# Altium integrated library Linear Technology Power Management Switching Regulator LT1074-LT8705.IntLib: 2252 symbols (part 81 of 148)
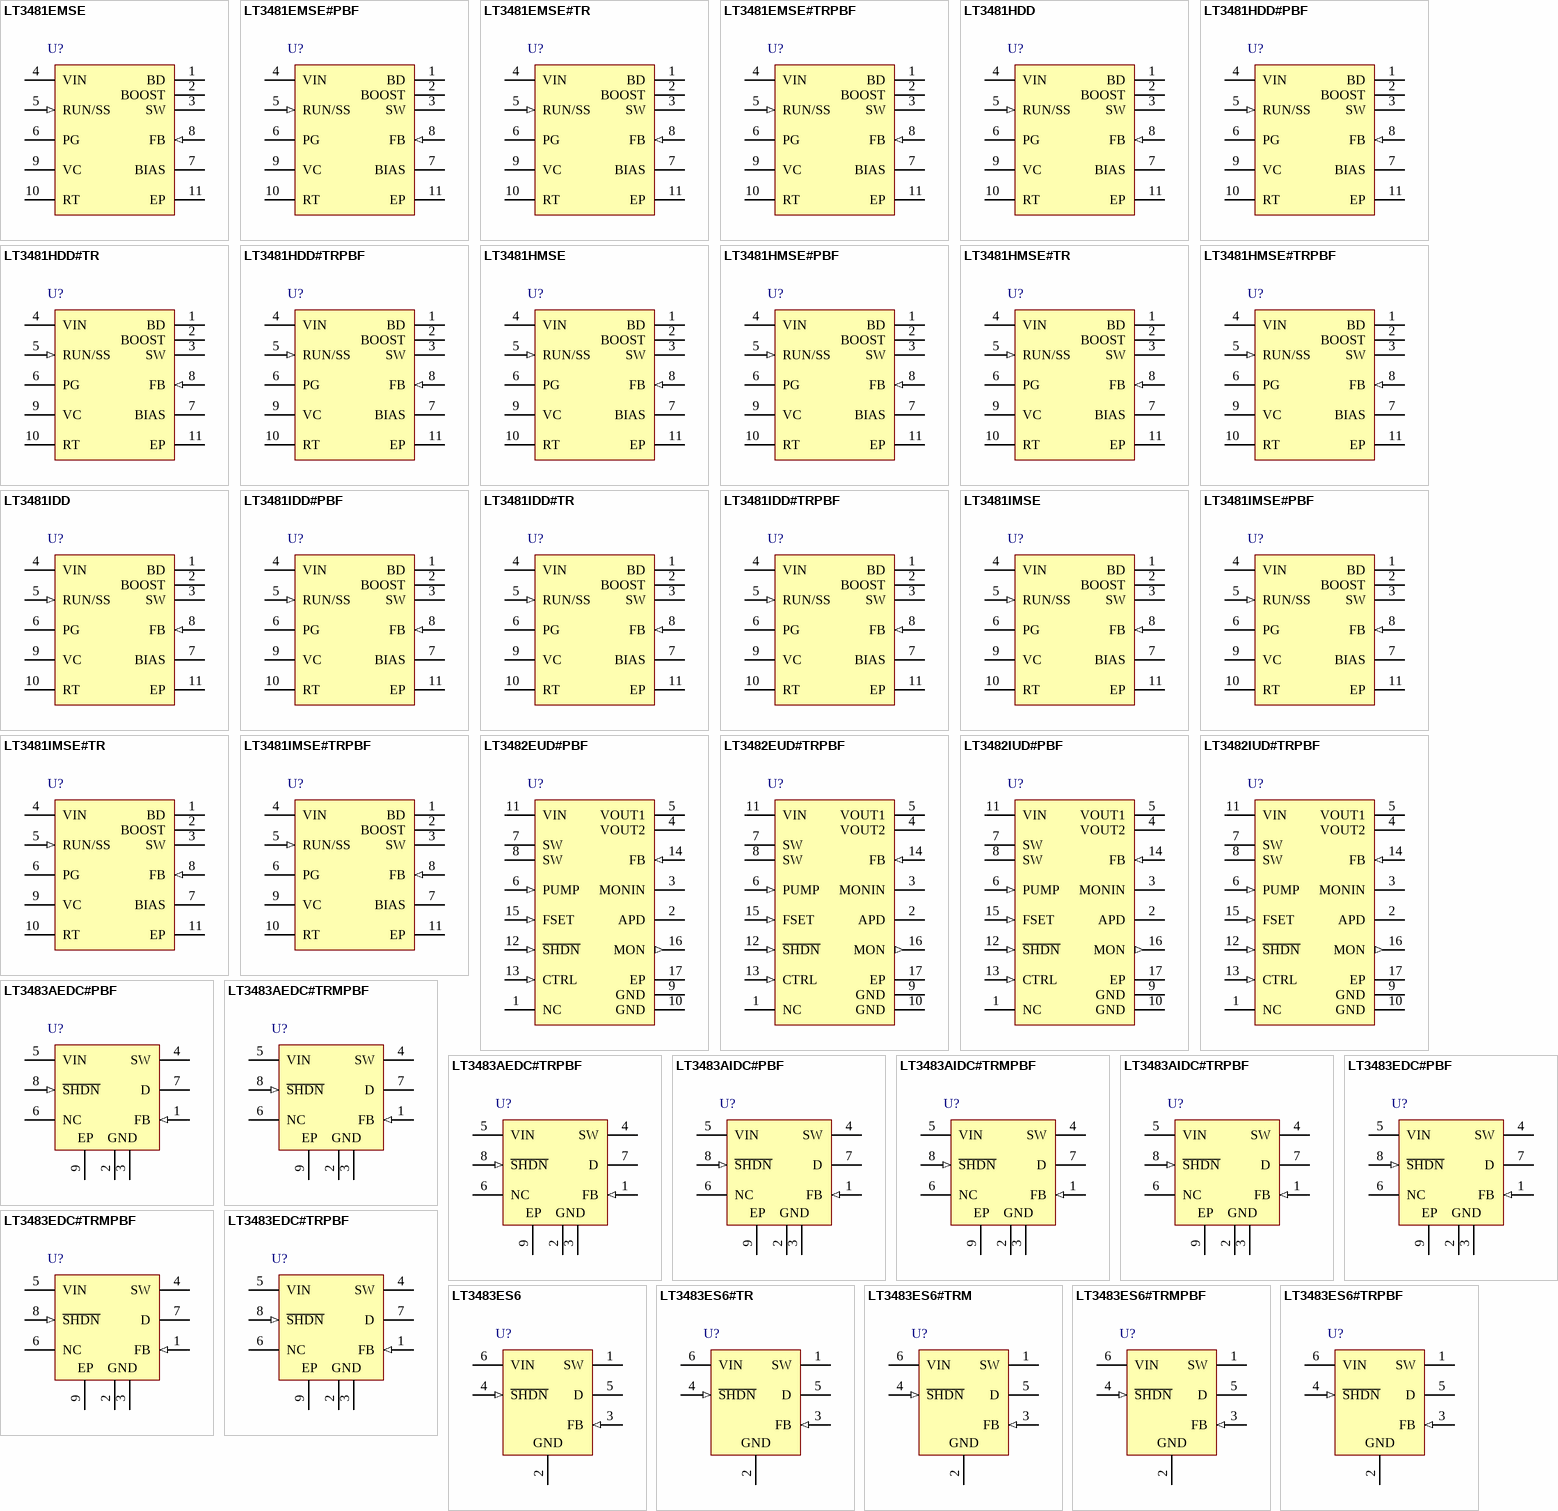
[diagram p151: symbols LT3481EMSE to LT3483ES6#TRPBF]

## LT3483AEDC#TRMPBF
designator U?
Inverting Micropower DC/DC Converter with Schottky Max, 8-pin SON (DC8), -40 to 85 degC, Pb-Free, Mini Tape and Reel; Manufacturer: Linear Technology; PartNumber: LT3483AEDC#TRMPBF; Number of Outputs: 1; DatasheetVersion: Rev. C; PackageVersion: Rev. A, 04/2009; PackageReference: DC8; PackageDescription: 8-Pin Plastic DFN, Body 2 x 2 mm, Pitch 0.45 mm; Supplier 1: Digi-Key; Supplier Part Number 1: LT3483AEDC#TRMPBFTR-ND; Supplier 2: Digi-Key; Supplier Part Number 2: LT3483AEDC#TRMPBFCT-ND; Supplier 3: Digi-Key; Supplier Part Number 3: LT3483AEDC#TRMPBFDKR-ND; Supplier 4: Farnell; Supplier Part Number 4: 1869453; Supplier 5: Newark; Supplier Part Number 5: 24T2735; Packing: Mini Tape and Reel; RoHS: TRUE; Mounting Technology: Surface Mount; ComponentLink1Description: Manufacturer URL; ComponentLink1URL: http://www.linear.com/; ComponentLink2Description: Datasheet; ComponentLink2URL: http://cds.linear.com/docs/en/datasheet/3483fc.pdf; ComponentLink3Description: Package Specification; ComponentLink3URL: http://cds.linear.com/docs/en/packaging/DFN_8_05-08-1719.pdf
footprint LT-DC8_V (SON, 8-Leads, Body 2x2mm, Pitch 0.45mm, Thermal Pad 1.37x0.64mm, Recommended)
pins: 1 FB (in) "Feedback. Place resistor to negative output here. Set resistor value R1 = VOUT/10uA.", 2 GND (power) "Ground. For DFN package, tie both pin 2 and pin 3 together to ground.", 3 GND (power) "Ground. For DFN package, tie both pin 2 and pin 3 together to ground.", 4 SW (power) "Switch. Connect to external inductor L1 and positive terminal of transfer capacitor.", 5 VIN (power) "Input Supply. Must be locally bypassed with 1uF or greater.", 6 NC "No Internal Connection.", 7 D "Anode Terminal of Integrated Schottky Diode. Connect to negative terminal of transfer capacitor and external inductor L2 (flyback configuration) or to cathode of external Schottky diode (inverting charge pump configuration).", 8 ~{SHDN} (in) "Shutdown. Connect to GND to turn device off. Connect to supply to turn device on.", 9 EP (power) "GND. The exposed pad should be soldered to the PCB ground to achieve the rated thermal performance."

## LT3483AEDC#TRPBF
designator U?
Inverting Micropower DC/DC Converter with Schottky Max, 8-pin SON (DC8), -40 to 85 degC, Pb-Free, Tape and Reel; Manufacturer: Linear Technology; PartNumber: LT3483AEDC#TRPBF; Number of Outputs: 1; DatasheetVersion: Rev. C; PackageVersion: Rev. A, 04/2009; PackageReference: DC8; PackageDescription: 8-Pin Plastic DFN, Body 2 x 2 mm, Pitch 0.45 mm; Supplier 1: Digi-Key; Supplier Part Number 1: LT3483AEDC#TRPBF-ND; Packing: Tape and Reel; RoHS: TRUE; Mounting Technology: Surface Mount; ComponentLink1Description: Manufacturer URL; ComponentLink1URL: http://www.linear.com/; ComponentLink2Description: Datasheet; ComponentLink2URL: http://cds.linear.com/docs/en/datasheet/3483fc.pdf; ComponentLink3Description: Package Specification; ComponentLink3URL: http://cds.linear.com/docs/en/packaging/DFN_8_05-08-1719.pdf
footprint LT-DC8_V (SON, 8-Leads, Body 2x2mm, Pitch 0.45mm, Thermal Pad 1.37x0.64mm, Recommended)
pins: 1 FB (in) "Feedback. Place resistor to negative output here. Set resistor value R1 = VOUT/10uA.", 2 GND (power) "Ground. For DFN package, tie both pin 2 and pin 3 together to ground.", 3 GND (power) "Ground. For DFN package, tie both pin 2 and pin 3 together to ground.", 4 SW (power) "Switch. Connect to external inductor L1 and positive terminal of transfer capacitor.", 5 VIN (power) "Input Supply. Must be locally bypassed with 1uF or greater.", 6 NC "No Internal Connection.", 7 D "Anode Terminal of Integrated Schottky Diode. Connect to negative terminal of transfer capacitor and external inductor L2 (flyback configuration) or to cathode of external Schottky diode (inverting charge pump configuration).", 8 ~{SHDN} (in) "Shutdown. Connect to GND to turn device off. Connect to supply to turn device on.", 9 EP (power) "GND. The exposed pad should be soldered to the PCB ground to achieve the rated thermal performance."

## LT3483AIDC#PBF
designator U?
Inverting Micropower DC/DC Converter with Schottky Max, 8-pin SON (DC8), -40 to 125 degC, Pb-Free; Manufacturer: Linear Technology; PartNumber: LT3483AIDC#PBF; Number of Outputs: 1; DatasheetVersion: Rev. C; PackageVersion: Rev. A, 04/2009; PackageReference: DC8; PackageDescription: 8-Pin Plastic DFN, Body 2 x 2 mm, Pitch 0.45 mm; RoHS: TRUE; Mounting Technology: Surface Mount; ComponentLink1Description: Manufacturer URL; ComponentLink1URL: http://www.linear.com/; ComponentLink2Description: Datasheet; ComponentLink2URL: http://cds.linear.com/docs/en/datasheet/3483fc.pdf; ComponentLink3Description: Package Specification; ComponentLink3URL: http://cds.linear.com/docs/en/packaging/DFN_8_05-08-1719.pdf
footprint LT-DC8_V (SON, 8-Leads, Body 2x2mm, Pitch 0.45mm, Thermal Pad 1.37x0.64mm, Recommended)
pins: 1 FB (in) "Feedback. Place resistor to negative output here. Set resistor value R1 = VOUT/10uA.", 2 GND (power) "Ground. For DFN package, tie both pin 2 and pin 3 together to ground.", 3 GND (power) "Ground. For DFN package, tie both pin 2 and pin 3 together to ground.", 4 SW (power) "Switch. Connect to external inductor L1 and positive terminal of transfer capacitor.", 5 VIN (power) "Input Supply. Must be locally bypassed with 1uF or greater.", 6 NC "No Internal Connection.", 7 D "Anode Terminal of Integrated Schottky Diode. Connect to negative terminal of transfer capacitor and external inductor L2 (flyback configuration) or to cathode of external Schottky diode (inverting charge pump configuration).", 8 ~{SHDN} (in) "Shutdown. Connect to GND to turn device off. Connect to supply to turn device on.", 9 EP (power) "GND. The exposed pad should be soldered to the PCB ground to achieve the rated thermal performance."

## LT3483AIDC#TRMPBF
designator U?
Inverting Micropower DC/DC Converter with Schottky Max, 8-pin SON (DC8), -40 to 125 degC, Pb-Free, Mini Tape and Reel; Manufacturer: Linear Technology; PartNumber: LT3483AIDC#TRMPBF; Number of Outputs: 1; DatasheetVersion: Rev. C; PackageVersion: Rev. A, 04/2009; PackageReference: DC8; PackageDescription: 8-Pin Plastic DFN, Body 2 x 2 mm, Pitch 0.45 mm; Supplier 1: Digi-Key; Supplier Part Number 1: LT3483AIDC#TRMPBF-ND; Packing: Mini Tape and Reel; RoHS: TRUE; Mounting Technology: Surface Mount; ComponentLink1Description: Manufacturer URL; ComponentLink1URL: http://www.linear.com/; ComponentLink2Description: Datasheet; ComponentLink2URL: http://cds.linear.com/docs/en/datasheet/3483fc.pdf; ComponentLink3Description: Package Specification; ComponentLink3URL: http://cds.linear.com/docs/en/packaging/DFN_8_05-08-1719.pdf
footprint LT-DC8_V (SON, 8-Leads, Body 2x2mm, Pitch 0.45mm, Thermal Pad 1.37x0.64mm, Recommended)
pins: 1 FB (in) "Feedback. Place resistor to negative output here. Set resistor value R1 = VOUT/10uA.", 2 GND (power) "Ground. For DFN package, tie both pin 2 and pin 3 together to ground.", 3 GND (power) "Ground. For DFN package, tie both pin 2 and pin 3 together to ground.", 4 SW (power) "Switch. Connect to external inductor L1 and positive terminal of transfer capacitor.", 5 VIN (power) "Input Supply. Must be locally bypassed with 1uF or greater.", 6 NC "No Internal Connection.", 7 D "Anode Terminal of Integrated Schottky Diode. Connect to negative terminal of transfer capacitor and external inductor L2 (flyback configuration) or to cathode of external Schottky diode (inverting charge pump configuration).", 8 ~{SHDN} (in) "Shutdown. Connect to GND to turn device off. Connect to supply to turn device on.", 9 EP (power) "GND. The exposed pad should be soldered to the PCB ground to achieve the rated thermal performance."

## LT3483AIDC#TRPBF
designator U?
Inverting Micropower DC/DC Converter with Schottky Max, 8-pin SON (DC8), -40 to 125 degC, Pb-Free, Tape and Reel; Manufacturer: Linear Technology; PartNumber: LT3483AIDC#TRPBF; Number of Outputs: 1; DatasheetVersion: Rev. C; PackageVersion: Rev. A, 04/2009; PackageReference: DC8; PackageDescription: 8-Pin Plastic DFN, Body 2 x 2 mm, Pitch 0.45 mm; Supplier 1: Digi-Key; Supplier Part Number 1: LT3483AIDC#TRPBF-ND; Packing: Tape and Reel; RoHS: TRUE; Mounting Technology: Surface Mount; ComponentLink1Description: Manufacturer URL; ComponentLink1URL: http://www.linear.com/; ComponentLink2Description: Datasheet; ComponentLink2URL: http://cds.linear.com/docs/en/datasheet/3483fc.pdf; ComponentLink3Description: Package Specification; ComponentLink3URL: http://cds.linear.com/docs/en/packaging/DFN_8_05-08-1719.pdf
footprint LT-DC8_V (SON, 8-Leads, Body 2x2mm, Pitch 0.45mm, Thermal Pad 1.37x0.64mm, Recommended)
pins: 1 FB (in) "Feedback. Place resistor to negative output here. Set resistor value R1 = VOUT/10uA.", 2 GND (power) "Ground. For DFN package, tie both pin 2 and pin 3 together to ground.", 3 GND (power) "Ground. For DFN package, tie both pin 2 and pin 3 together to ground.", 4 SW (power) "Switch. Connect to external inductor L1 and positive terminal of transfer capacitor.", 5 VIN (power) "Input Supply. Must be locally bypassed with 1uF or greater.", 6 NC "No Internal Connection.", 7 D "Anode Terminal of Integrated Schottky Diode. Connect to negative terminal of transfer capacitor and external inductor L2 (flyback configuration) or to cathode of external Schottky diode (inverting charge pump configuration).", 8 ~{SHDN} (in) "Shutdown. Connect to GND to turn device off. Connect to supply to turn device on.", 9 EP (power) "GND. The exposed pad should be soldered to the PCB ground to achieve the rated thermal performance."

## LT3483EDC#PBF
designator U?
Inverting Micropower DC/DC Converter with Schottky, 8-pin SON (DC8-8), -40 to 85 degC, Pb-Free; Manufacturer: Linear Technology; PartNumber: LT3483EDC#PBF; Number of Outputs: 1; DatasheetVersion: Rev. C; PackageVersion: Rev. A, 06/2010; PackageReference: DC8-8; PackageDescription: 8-Pin Plastic DFN, Body 2 x 2 mm, Pitch 0.45 mm; Supplier 1: Farnell; Supplier Part Number 1: 2308207; Supplier 2: Newark; Supplier Part Number 2: 78T4010; RoHS: TRUE; Mounting Technology: Surface Mount; ComponentLink1Description: Manufacturer URL; ComponentLink1URL: http://www.linear.com/; ComponentLink2Description: Datasheet; ComponentLink2URL: http://cds.linear.com/docs/en/datasheet/3483fc.pdf; ComponentLink3Description: Package Specification; ComponentLink3URL: http://www.linear.com/docs/en/packaging/DFN_8_05-08-1719.pdf
footprint LT-DC8-8_V (SON, 8-Leads, Body 2x2mm, Pitch 0.45mm, Thermal Pad 1.37x0.64mm)
pins: 1 FB (in) "Feedback. Place resistor to negative output here. Set resistor value R1 = VOUT/10uA.", 2 GND (power) "Ground. For DFN package, tie both pin 2 and pin 3 together to ground.", 3 GND (power) "Ground. For DFN package, tie both pin 2 and pin 3 together to ground.", 4 SW (power) "Switch. Connect to external inductor L1 and positive terminal of transfer capacitor.", 5 VIN (power) "Input Supply. Must be locally bypassed with 1uF or greater.", 6 NC "No Internal Connection.", 7 D "Anode Terminal of Integrated Schottky Diode. Connect to negative terminal of transfer capacitor and external inductor L2 (flyback configuration) or to cathode of external Schottky diode (inverting charge pump configuration).", 8 ~{SHDN} (in) "Shutdown. Connect to GND to turn device off. Connect to supply to turn device on.", 9 EP (power) "GND. The exposed pad should be soldered to the PCB ground to achieve the rated thermal performance."

## LT3483EDC#TRMPBF
designator U?
Inverting Micropower DC/DC Converter with Schottky, 8-pin SON (DC8-8), -40 to 85 degC, Pb-Free, Mini Tape and Reel; Manufacturer: Linear Technology; PartNumber: LT3483EDC#TRMPBF; Number of Outputs: 1; DatasheetVersion: Rev. C; PackageVersion: Rev. A, 06/2010; PackageReference: DC8-8; PackageDescription: 8-Pin Plastic DFN, Body 2 x 2 mm, Pitch 0.45 mm; Supplier 1: Digi-Key; Supplier Part Number 1: LT3483EDC#TRMPBFTR-ND; Supplier 2: Digi-Key; Supplier Part Number 2: LT3483EDC#TRMPBFCT-ND; Supplier 3: Digi-Key; Supplier Part Number 3: LT3483EDC#TRMPBFDKR-ND; Supplier 4: Newark; Supplier Part Number 4: 57M8369; Packing: Mini Tape and Reel; RoHS: TRUE; Mounting Technology: Surface Mount; ComponentLink1Description: Manufacturer URL; ComponentLink1URL: http://www.linear.com/; ComponentLink2Description: Datasheet; ComponentLink2URL: http://cds.linear.com/docs/en/datasheet/3483fc.pdf; ComponentLink3Description: Package Specification; ComponentLink3URL: http://www.linear.com/docs/en/packaging/DFN_8_05-08-1719.pdf
footprint LT-DC8-8_V (SON, 8-Leads, Body 2x2mm, Pitch 0.45mm, Thermal Pad 1.37x0.64mm)
pins: 1 FB (in) "Feedback. Place resistor to negative output here. Set resistor value R1 = VOUT/10uA.", 2 GND (power) "Ground. For DFN package, tie both pin 2 and pin 3 together to ground.", 3 GND (power) "Ground. For DFN package, tie both pin 2 and pin 3 together to ground.", 4 SW (power) "Switch. Connect to external inductor L1 and positive terminal of transfer capacitor.", 5 VIN (power) "Input Supply. Must be locally bypassed with 1uF or greater.", 6 NC "No Internal Connection.", 7 D "Anode Terminal of Integrated Schottky Diode. Connect to negative terminal of transfer capacitor and external inductor L2 (flyback configuration) or to cathode of external Schottky diode (inverting charge pump configuration).", 8 ~{SHDN} (in) "Shutdown. Connect to GND to turn device off. Connect to supply to turn device on.", 9 EP (power) "GND. The exposed pad should be soldered to the PCB ground to achieve the rated thermal performance."

## LT3483EDC#TRPBF
designator U?
Inverting Micropower DC/DC Converter with Schottky, 8-pin SON (DC8-8), -40 to 85 degC, Pb-Free, Tape and Reel; Manufacturer: Linear Technology; PartNumber: LT3483EDC#TRPBF; Number of Outputs: 1; DatasheetVersion: Rev. C; PackageVersion: Rev. A, 06/2010; PackageReference: DC8-8; PackageDescription: 8-Pin Plastic DFN, Body 2 x 2 mm, Pitch 0.45 mm; Supplier 1: Digi-Key; Supplier Part Number 1: LT3483EDC#TRPBF-ND; Supplier 2: Newark; Supplier Part Number 2: 57M8370; Packing: Tape and Reel; RoHS: TRUE; Mounting Technology: Surface Mount; ComponentLink1Description: Manufacturer URL; ComponentLink1URL: http://www.linear.com/; ComponentLink2Description: Datasheet; ComponentLink2URL: http://cds.linear.com/docs/en/datasheet/3483fc.pdf; ComponentLink3Description: Package Specification; ComponentLink3URL: http://www.linear.com/docs/en/packaging/DFN_8_05-08-1719.pdf
footprint LT-DC8-8_V (SON, 8-Leads, Body 2x2mm, Pitch 0.45mm, Thermal Pad 1.37x0.64mm)
pins: 1 FB (in) "Feedback. Place resistor to negative output here. Set resistor value R1 = VOUT/10uA.", 2 GND (power) "Ground. For DFN package, tie both pin 2 and pin 3 together to ground.", 3 GND (power) "Ground. For DFN package, tie both pin 2 and pin 3 together to ground.", 4 SW (power) "Switch. Connect to external inductor L1 and positive terminal of transfer capacitor.", 5 VIN (power) "Input Supply. Must be locally bypassed with 1uF or greater.", 6 NC "No Internal Connection.", 7 D "Anode Terminal of Integrated Schottky Diode. Connect to negative terminal of transfer capacitor and external inductor L2 (flyback configuration) or to cathode of external Schottky diode (inverting charge pump configuration).", 8 ~{SHDN} (in) "Shutdown. Connect to GND to turn device off. Connect to supply to turn device on.", 9 EP (power) "GND. The exposed pad should be soldered to the PCB ground to achieve the rated thermal performance."

## LT3483ES6
designator U?
Inverting Micropower DC/DC Converter with Schottky, 6-pin SOT23 (S6-6), -40 to 85 degC; Manufacturer: Linear Technology; PartNumber: LT3483ES6; Number of Outputs: 1; DatasheetVersion: Rev. C; PackageVersion: Jun-10; PackageReference: S6-6; PackageDescription: 6-Pin Plastic TSOT-23, Body 2.9 x 1.63 mm, Pitch 0.95 mm; RoHS: FALSE; Mounting Technology: Surface Mount; Code_JEDEC: MO-193; ComponentLink1Description: Manufacturer URL; ComponentLink1URL: http://www.linear.com/; ComponentLink2Description: Datasheet; ComponentLink2URL: http://cds.linear.com/docs/en/datasheet/3483fc.pdf; ComponentLink3Description: Package Specification; ComponentLink3URL: http://cds.linear.com/docs/en/packaging/SOT_6_05-08-1636.pdf
footprint LT-S6-6-TSOT-23_N (SOT23, 6-Leads, Body 2.9x1.75mm, Pitch 0.95mm, IPC Medium Density)
footprint LT-S6-6-TSOT-23_L (SOT23, 6-Leads, Body 2.9x1.75mm, Pitch 0.95mm, IPC High Density)
footprint LT-S6-6-TSOT-23_M (SOT23, 6-Leads, Body 2.9x1.75mm, Pitch 0.95mm, IPC Low Density)
pins: 1 SW "Switch. Connect to external inductor  L1 and positive terminal of transfer capacitor.", 2 GND (power) "Ground. For DFN package, tie both  pin 2 and pin 3 together to ground.", 3 FB (in) "Feedback. Place resistor to negative  output here. Set resistor value R1 = VOUT/10uA.", 4 ~{SHDN} (in) "Shutdown. Connect to GND to turn  device off. Connect to supply to turn device on.", 5 D "Anode Terminal of Integrated Schottky Diode. Connect to negative terminal of transfer capacitor and external inductor L2 (flyback configuration) or to cathode of external Schottky diode (inverting charge  pump configuration).", 6 VIN (power) "Input Supply. Must be locally bypassed  with 1uF or greater."

## LT3483ES6#TR
designator U?
Inverting Micropower DC/DC Converter with Schottky, 6-pin SOT23 (S6-6), -40 to 85 degC, Tape and Reel; Manufacturer: Linear Technology; PartNumber: LT3483ES6#TR; Number of Outputs: 1; DatasheetVersion: Rev. C; PackageVersion: Jun-10; PackageReference: S6-6; PackageDescription: 6-Pin Plastic TSOT-23, Body 2.9 x 1.63 mm, Pitch 0.95 mm; Packing: Tape and Reel; RoHS: FALSE; Mounting Technology: Surface Mount; Code_JEDEC: MO-193; ComponentLink1Description: Manufacturer URL; ComponentLink1URL: http://www.linear.com/; ComponentLink2Description: Datasheet; ComponentLink2URL: http://cds.linear.com/docs/en/datasheet/3483fc.pdf; ComponentLink3Description: Package Specification; ComponentLink3URL: http://cds.linear.com/docs/en/packaging/SOT_6_05-08-1636.pdf
footprint LT-S6-6-TSOT-23_N (SOT23, 6-Leads, Body 2.9x1.75mm, Pitch 0.95mm, IPC Medium Density)
footprint LT-S6-6-TSOT-23_L (SOT23, 6-Leads, Body 2.9x1.75mm, Pitch 0.95mm, IPC High Density)
footprint LT-S6-6-TSOT-23_M (SOT23, 6-Leads, Body 2.9x1.75mm, Pitch 0.95mm, IPC Low Density)
pins: 1 SW "Switch. Connect to external inductor  L1 and positive terminal of transfer capacitor.", 2 GND (power) "Ground. For DFN package, tie both  pin 2 and pin 3 together to ground.", 3 FB (in) "Feedback. Place resistor to negative  output here. Set resistor value R1 = VOUT/10uA.", 4 ~{SHDN} (in) "Shutdown. Connect to GND to turn  device off. Connect to supply to turn device on.", 5 D "Anode Terminal of Integrated Schottky Diode. Connect to negative terminal of transfer capacitor and external inductor L2 (flyback configuration) or to cathode of external Schottky diode (inverting charge  pump configuration).", 6 VIN (power) "Input Supply. Must be locally bypassed  with 1uF or greater."

## LT3483ES6#TRM
designator U?
Inverting Micropower DC/DC Converter with Schottky, 6-pin SOT23 (S6-6), -40 to 85 degC, Mini Tape and Reel; Manufacturer: Linear Technology; PartNumber: LT3483ES6#TRM; Number of Outputs: 1; DatasheetVersion: Rev. C; PackageVersion: Jun-10; PackageReference: S6-6; PackageDescription: 6-Pin Plastic TSOT-23, Body 2.9 x 1.63 mm, Pitch 0.95 mm; Supplier 1: Digi-Key; Supplier Part Number 1: LT3483ES6#TRMTR-ND; Supplier 2: Digi-Key; Supplier Part Number 2: LT3483ES6#TRMCT-ND; Packing: Mini Tape and Reel; RoHS: FALSE; Mounting Technology: Surface Mount; Code_JEDEC: MO-193; ComponentLink1Description: Manufacturer URL; ComponentLink1URL: http://www.linear.com/; ComponentLink2Description: Datasheet; ComponentLink2URL: http://cds.linear.com/docs/en/datasheet/3483fc.pdf; ComponentLink3Description: Package Specification; ComponentLink3URL: http://cds.linear.com/docs/en/packaging/SOT_6_05-08-1636.pdf
footprint LT-S6-6-TSOT-23_N (SOT23, 6-Leads, Body 2.9x1.75mm, Pitch 0.95mm, IPC Medium Density)
footprint LT-S6-6-TSOT-23_L (SOT23, 6-Leads, Body 2.9x1.75mm, Pitch 0.95mm, IPC High Density)
footprint LT-S6-6-TSOT-23_M (SOT23, 6-Leads, Body 2.9x1.75mm, Pitch 0.95mm, IPC Low Density)
pins: 1 SW "Switch. Connect to external inductor  L1 and positive terminal of transfer capacitor.", 2 GND (power) "Ground. For DFN package, tie both  pin 2 and pin 3 together to ground.", 3 FB (in) "Feedback. Place resistor to negative  output here. Set resistor value R1 = VOUT/10uA.", 4 ~{SHDN} (in) "Shutdown. Connect to GND to turn  device off. Connect to supply to turn device on.", 5 D "Anode Terminal of Integrated Schottky Diode. Connect to negative terminal of transfer capacitor and external inductor L2 (flyback configuration) or to cathode of external Schottky diode (inverting charge  pump configuration).", 6 VIN (power) "Input Supply. Must be locally bypassed  with 1uF or greater."

## LT3483ES6#TRMPBF
designator U?
Inverting Micropower DC/DC Converter with Schottky MAX, 6-pin SOT23 (S6-6), -40 to 85 degC, Pb-Free, Mini Tape and Reel; Manufacturer: Linear Technology; PartNumber: LT3483ES6#TRMPBF; Number of Outputs: 1; DatasheetVersion: Rev. C; PackageVersion: Jun-10; PackageReference: S6-6; PackageDescription: 6-Pin Plastic TSOT-23, Body 2.9 x 1.63 mm, Pitch 0.95 mm; Supplier 1: Digi-Key; Supplier Part Number 1: LT3483ES6#TRMPBF-ND; Supplier 2: Newark; Supplier Part Number 2: 57M8373; Packing: Mini Tape and Reel; RoHS: TRUE; Mounting Technology: Surface Mount; Code_JEDEC: MO-193; ComponentLink1Description: Manufacturer URL; ComponentLink1URL: http://www.linear.com/; ComponentLink2Description: Datasheet; ComponentLink2URL: http://cds.linear.com/docs/en/datasheet/3483fc.pdf; ComponentLink3Description: Package Specification; ComponentLink3URL: http://cds.linear.com/docs/en/packaging/SOT_6_05-08-1636.pdf
footprint LT-S6-6-TSOT-23_N (SOT23, 6-Leads, Body 2.9x1.75mm, Pitch 0.95mm, IPC Medium Density)
footprint LT-S6-6-TSOT-23_L (SOT23, 6-Leads, Body 2.9x1.75mm, Pitch 0.95mm, IPC High Density)
footprint LT-S6-6-TSOT-23_M (SOT23, 6-Leads, Body 2.9x1.75mm, Pitch 0.95mm, IPC Low Density)
pins: 1 SW "Switch. Connect to external inductor  L1 and positive terminal of transfer capacitor.", 2 GND (power) "Ground. For DFN package, tie both  pin 2 and pin 3 together to ground.", 3 FB (in) "Feedback. Place resistor to negative  output here. Set resistor value R1 = VOUT/10uA.", 4 ~{SHDN} (in) "Shutdown. Connect to GND to turn  device off. Connect to supply to turn device on.", 5 D "Anode Terminal of Integrated Schottky Diode. Connect to negative terminal of transfer capacitor and external inductor L2 (flyback configuration) or to cathode of external Schottky diode (inverting charge  pump configuration).", 6 VIN (power) "Input Supply. Must be locally bypassed  with 1uF or greater."

## LT3483ES6#TRPBF
designator U?
Inverting Micropower DC/DC Converter with Schottky MAX, 6-pin SOT23 (S6-6), -40 to 85 degC, Pb-Free, Tape and Reel; Manufacturer: Linear Technology; PartNumber: LT3483ES6#TRPBF; Number of Outputs: 1; DatasheetVersion: Rev. C; PackageVersion: Jun-10; PackageReference: S6-6; PackageDescription: 6-Pin Plastic TSOT-23, Body 2.9 x 1.63 mm, Pitch 0.95 mm; Supplier 1: Digi-Key; Supplier Part Number 1: LT3483ES6#TRPBF-ND; Supplier 2: Newark; Supplier Part Number 2: 57M8374; Packing: Tape and Reel; RoHS: TRUE; Mounting Technology: Surface Mount; Code_JEDEC: MO-193; ComponentLink1Description: Manufacturer URL; ComponentLink1URL: http://www.linear.com/; ComponentLink2Description: Datasheet; ComponentLink2URL: http://cds.linear.com/docs/en/datasheet/3483fc.pdf; ComponentLink3Description: Package Specification; ComponentLink3URL: http://cds.linear.com/docs/en/packaging/SOT_6_05-08-1636.pdf
footprint LT-S6-6-TSOT-23_N (SOT23, 6-Leads, Body 2.9x1.75mm, Pitch 0.95mm, IPC Medium Density)
footprint LT-S6-6-TSOT-23_L (SOT23, 6-Leads, Body 2.9x1.75mm, Pitch 0.95mm, IPC High Density)
footprint LT-S6-6-TSOT-23_M (SOT23, 6-Leads, Body 2.9x1.75mm, Pitch 0.95mm, IPC Low Density)
pins: 1 SW "Switch. Connect to external inductor  L1 and positive terminal of transfer capacitor.", 2 GND (power) "Ground. For DFN package, tie both  pin 2 and pin 3 together to ground.", 3 FB (in) "Feedback. Place resistor to negative  output here. Set resistor value R1 = VOUT/10uA.", 4 ~{SHDN} (in) "Shutdown. Connect to GND to turn  device off. Connect to supply to turn device on.", 5 D "Anode Terminal of Integrated Schottky Diode. Connect to negative terminal of transfer capacitor and external inductor L2 (flyback configuration) or to cathode of external Schottky diode (inverting charge  pump configuration).", 6 VIN (power) "Input Supply. Must be locally bypassed  with 1uF or greater."

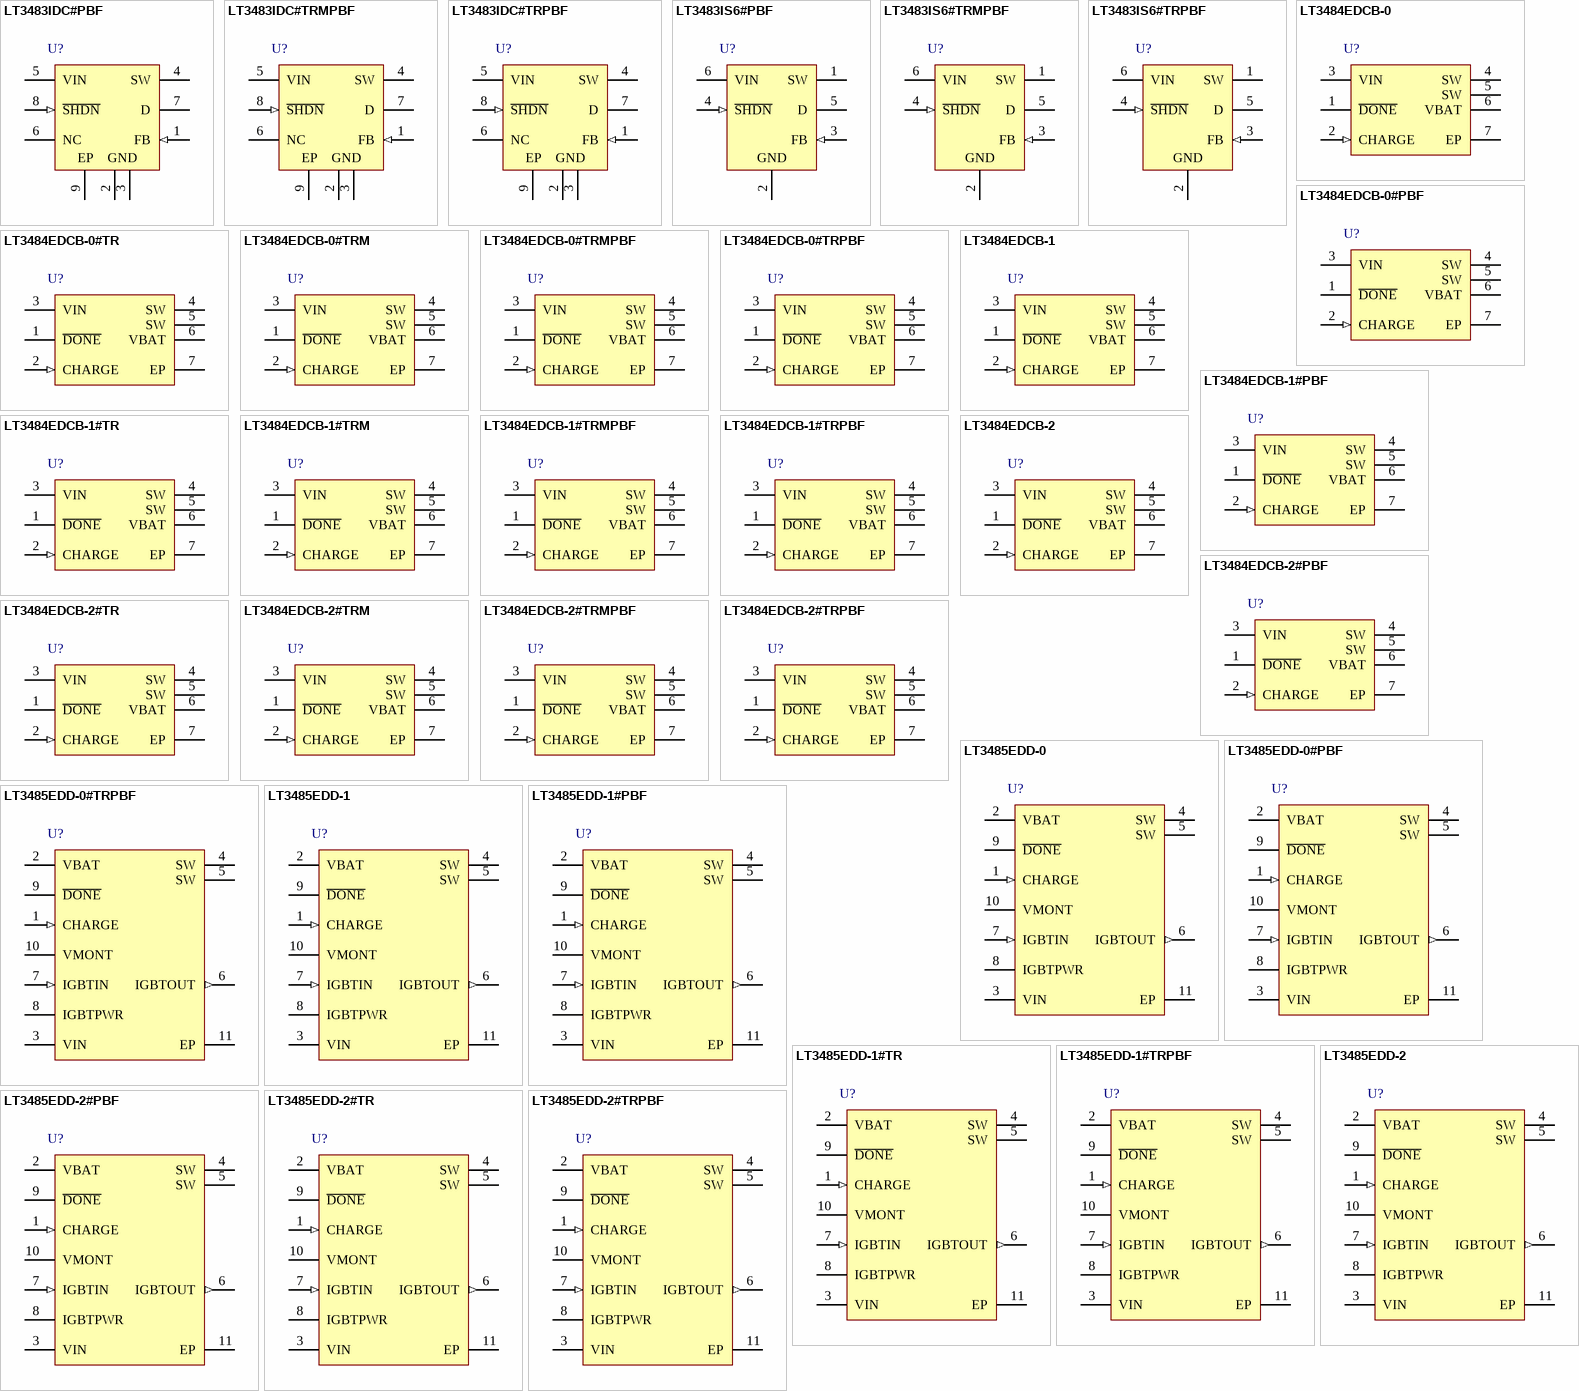
[diagram p41: symbols LT3483IDC#PBF to LT3485EDD-2#TRPBF]

## LT3483IDC#PBF
designator U?
Inverting Micropower DC/DC Converter with Schottky, 8-pin SON (DC8-8), -40 to 125 degC, Pb-Free; Manufacturer: Linear Technology; PartNumber: LT3483IDC#PBF; Number of Outputs: 1; DatasheetVersion: Rev. C; PackageVersion: Rev. A, 06/2010; PackageReference: DC8-8; PackageDescription: 8-Pin Plastic DFN, Body 2 x 2 mm, Pitch 0.45 mm; Supplier 1: Newark; Supplier Part Number 1: 78T4011; RoHS: TRUE; Mounting Technology: Surface Mount; ComponentLink1Description: Manufacturer URL; ComponentLink1URL: http://www.linear.com/; ComponentLink2Description: Datasheet; ComponentLink2URL: http://cds.linear.com/docs/en/datasheet/3483fc.pdf; ComponentLink3Description: Package Specification; ComponentLink3URL: http://www.linear.com/docs/en/packaging/DFN_8_05-08-1719.pdf
footprint LT-DC8-8_V (SON, 8-Leads, Body 2x2mm, Pitch 0.45mm, Thermal Pad 1.37x0.64mm)
pins: 1 FB (in) "Feedback. Place resistor to negative output here. Set resistor value R1 = VOUT/10uA.", 2 GND (power) "Ground. For DFN package, tie both pin 2 and pin 3 together to ground.", 3 GND (power) "Ground. For DFN package, tie both pin 2 and pin 3 together to ground.", 4 SW (power) "Switch. Connect to external inductor L1 and positive terminal of transfer capacitor.", 5 VIN (power) "Input Supply. Must be locally bypassed with 1uF or greater.", 6 NC "No Internal Connection.", 7 D "Anode Terminal of Integrated Schottky Diode. Connect to negative terminal of transfer capacitor and external inductor L2 (flyback configuration) or to cathode of external Schottky diode (inverting charge pump configuration).", 8 ~{SHDN} (in) "Shutdown. Connect to GND to turn device off. Connect to supply to turn device on.", 9 EP (power) "GND. The exposed pad should be soldered to the PCB ground to achieve the rated thermal performance."

## LT3483IDC#TRMPBF
designator U?
Inverting Micropower DC/DC Converter with Schottky, 8-pin SON (DC8-8), -40 to 125 degC, Pb-Free, Mini Tape and Reel; Manufacturer: Linear Technology; PartNumber: LT3483IDC#TRMPBF; Number of Outputs: 1; DatasheetVersion: Rev. C; PackageVersion: Rev. A, 06/2010; PackageReference: DC8-8; PackageDescription: 8-Pin Plastic DFN, Body 2 x 2 mm, Pitch 0.45 mm; Supplier 1: Digi-Key; Supplier Part Number 1: LT3483IDC#TRMPBF-ND; Packing: Mini Tape and Reel; RoHS: TRUE; Mounting Technology: Surface Mount; ComponentLink1Description: Manufacturer URL; ComponentLink1URL: http://www.linear.com/; ComponentLink2Description: Datasheet; ComponentLink2URL: http://cds.linear.com/docs/en/datasheet/3483fc.pdf; ComponentLink3Description: Package Specification; ComponentLink3URL: http://www.linear.com/docs/en/packaging/DFN_8_05-08-1719.pdf
footprint LT-DC8-8_V (SON, 8-Leads, Body 2x2mm, Pitch 0.45mm, Thermal Pad 1.37x0.64mm)
pins: 1 FB (in) "Feedback. Place resistor to negative output here. Set resistor value R1 = VOUT/10uA.", 2 GND (power) "Ground. For DFN package, tie both pin 2 and pin 3 together to ground.", 3 GND (power) "Ground. For DFN package, tie both pin 2 and pin 3 together to ground.", 4 SW (power) "Switch. Connect to external inductor L1 and positive terminal of transfer capacitor.", 5 VIN (power) "Input Supply. Must be locally bypassed with 1uF or greater.", 6 NC "No Internal Connection.", 7 D "Anode Terminal of Integrated Schottky Diode. Connect to negative terminal of transfer capacitor and external inductor L2 (flyback configuration) or to cathode of external Schottky diode (inverting charge pump configuration).", 8 ~{SHDN} (in) "Shutdown. Connect to GND to turn device off. Connect to supply to turn device on.", 9 EP (power) "GND. The exposed pad should be soldered to the PCB ground to achieve the rated thermal performance."

## LT3483IDC#TRPBF
designator U?
Inverting Micropower DC/DC Converter with Schottky, 8-pin SON (DC8-8), -40 to 125 degC, Pb-Free, Tape and Reel; Manufacturer: Linear Technology; PartNumber: LT3483IDC#TRPBF; Number of Outputs: 1; DatasheetVersion: Rev. C; PackageVersion: Rev. A, 06/2010; PackageReference: DC8-8; PackageDescription: 8-Pin Plastic DFN, Body 2 x 2 mm, Pitch 0.45 mm; Supplier 1: Digi-Key; Supplier Part Number 1: LT3483IDC#TRPBF-ND; Packing: Tape and Reel; RoHS: TRUE; Mounting Technology: Surface Mount; ComponentLink1Description: Manufacturer URL; ComponentLink1URL: http://www.linear.com/; ComponentLink2Description: Datasheet; ComponentLink2URL: http://cds.linear.com/docs/en/datasheet/3483fc.pdf; ComponentLink3Description: Package Specification; ComponentLink3URL: http://www.linear.com/docs/en/packaging/DFN_8_05-08-1719.pdf
footprint LT-DC8-8_V (SON, 8-Leads, Body 2x2mm, Pitch 0.45mm, Thermal Pad 1.37x0.64mm)
pins: 1 FB (in) "Feedback. Place resistor to negative output here. Set resistor value R1 = VOUT/10uA.", 2 GND (power) "Ground. For DFN package, tie both pin 2 and pin 3 together to ground.", 3 GND (power) "Ground. For DFN package, tie both pin 2 and pin 3 together to ground.", 4 SW (power) "Switch. Connect to external inductor L1 and positive terminal of transfer capacitor.", 5 VIN (power) "Input Supply. Must be locally bypassed with 1uF or greater.", 6 NC "No Internal Connection.", 7 D "Anode Terminal of Integrated Schottky Diode. Connect to negative terminal of transfer capacitor and external inductor L2 (flyback configuration) or to cathode of external Schottky diode (inverting charge pump configuration).", 8 ~{SHDN} (in) "Shutdown. Connect to GND to turn device off. Connect to supply to turn device on.", 9 EP (power) "GND. The exposed pad should be soldered to the PCB ground to achieve the rated thermal performance."

## LT3483IS6#PBF
designator U?
Inverting Micropower DC/DC Converter with Schottky MAX, 6-pin SOT23 (S6-6), -40 to 125 degC, Pb-Free; Manufacturer: Linear Technology; PartNumber: LT3483IS6#PBF; Number of Outputs: 1; DatasheetVersion: Rev. C; PackageVersion: Jun-10; PackageReference: S6-6; PackageDescription: 6-Pin Plastic TSOT-23, Body 2.9 x 1.63 mm, Pitch 0.95 mm; RoHS: TRUE; Mounting Technology: Surface Mount; Code_JEDEC: MO-193; ComponentLink1Description: Manufacturer URL; ComponentLink1URL: http://www.linear.com/; ComponentLink2Description: Datasheet; ComponentLink2URL: http://cds.linear.com/docs/en/datasheet/3483fc.pdf; ComponentLink3Description: Package Specification; ComponentLink3URL: http://cds.linear.com/docs/en/packaging/SOT_6_05-08-1636.pdf
footprint LT-S6-6-TSOT-23_N (SOT23, 6-Leads, Body 2.9x1.75mm, Pitch 0.95mm, IPC Medium Density)
footprint LT-S6-6-TSOT-23_L (SOT23, 6-Leads, Body 2.9x1.75mm, Pitch 0.95mm, IPC High Density)
footprint LT-S6-6-TSOT-23_M (SOT23, 6-Leads, Body 2.9x1.75mm, Pitch 0.95mm, IPC Low Density)
pins: 1 SW "Switch. Connect to external inductor  L1 and positive terminal of transfer capacitor.", 2 GND (power) "Ground. For DFN package, tie both  pin 2 and pin 3 together to ground.", 3 FB (in) "Feedback. Place resistor to negative  output here. Set resistor value R1 = VOUT/10uA.", 4 ~{SHDN} (in) "Shutdown. Connect to GND to turn  device off. Connect to supply to turn device on.", 5 D "Anode Terminal of Integrated Schottky Diode. Connect to negative terminal of transfer capacitor and external inductor L2 (flyback configuration) or to cathode of external Schottky diode (inverting charge  pump configuration).", 6 VIN (power) "Input Supply. Must be locally bypassed  with 1uF or greater."

## LT3483IS6#TRMPBF
designator U?
Inverting Micropower DC/DC Converter with Schottky MAX, 6-pin SOT23 (S6-6), -40 to 125 degC, Pb-Free, Mini Tape and Reel; Manufacturer: Linear Technology; PartNumber: LT3483IS6#TRMPBF; Number of Outputs: 1; DatasheetVersion: Rev. C; PackageVersion: Jun-10; PackageReference: S6-6; PackageDescription: 6-Pin Plastic TSOT-23, Body 2.9 x 1.63 mm, Pitch 0.95 mm; Supplier 1: Digi-Key; Supplier Part Number 1: LT3483IS6#TRMPBF-ND; Supplier 2: Newark; Supplier Part Number 2: 15N3664; Packing: Mini Tape and Reel; RoHS: TRUE; Mounting Technology: Surface Mount; Code_JEDEC: MO-193; ComponentLink1Description: Manufacturer URL; ComponentLink1URL: http://www.linear.com/; ComponentLink2Description: Datasheet; ComponentLink2URL: http://cds.linear.com/docs/en/datasheet/3483fc.pdf; ComponentLink3Description: Package Specification; ComponentLink3URL: http://cds.linear.com/docs/en/packaging/SOT_6_05-08-1636.pdf
footprint LT-S6-6-TSOT-23_N (SOT23, 6-Leads, Body 2.9x1.75mm, Pitch 0.95mm, IPC Medium Density)
footprint LT-S6-6-TSOT-23_L (SOT23, 6-Leads, Body 2.9x1.75mm, Pitch 0.95mm, IPC High Density)
footprint LT-S6-6-TSOT-23_M (SOT23, 6-Leads, Body 2.9x1.75mm, Pitch 0.95mm, IPC Low Density)
pins: 1 SW "Switch. Connect to external inductor  L1 and positive terminal of transfer capacitor.", 2 GND (power) "Ground. For DFN package, tie both  pin 2 and pin 3 together to ground.", 3 FB (in) "Feedback. Place resistor to negative  output here. Set resistor value R1 = VOUT/10uA.", 4 ~{SHDN} (in) "Shutdown. Connect to GND to turn  device off. Connect to supply to turn device on.", 5 D "Anode Terminal of Integrated Schottky Diode. Connect to negative terminal of transfer capacitor and external inductor L2 (flyback configuration) or to cathode of external Schottky diode (inverting charge  pump configuration).", 6 VIN (power) "Input Supply. Must be locally bypassed  with 1uF or greater."

## LT3483IS6#TRPBF
designator U?
Inverting Micropower DC/DC Converter with Schottky MAX, 6-pin SOT23 (S6-6), -40 to 125 degC, Pb-Free, Tape and Reel; Manufacturer: Linear Technology; PartNumber: LT3483IS6#TRPBF; Number of Outputs: 1; DatasheetVersion: Rev. C; PackageVersion: Jun-10; PackageReference: S6-6; PackageDescription: 6-Pin Plastic TSOT-23, Body 2.9 x 1.63 mm, Pitch 0.95 mm; Supplier 1: Digi-Key; Supplier Part Number 1: LT3483IS6#TRPBF-ND; Packing: Tape and Reel; RoHS: TRUE; Mounting Technology: Surface Mount; Code_JEDEC: MO-193; ComponentLink1Description: Manufacturer URL; ComponentLink1URL: http://www.linear.com/; ComponentLink2Description: Datasheet; ComponentLink2URL: http://cds.linear.com/docs/en/datasheet/3483fc.pdf; ComponentLink3Description: Package Specification; ComponentLink3URL: http://cds.linear.com/docs/en/packaging/SOT_6_05-08-1636.pdf
footprint LT-S6-6-TSOT-23_N (SOT23, 6-Leads, Body 2.9x1.75mm, Pitch 0.95mm, IPC Medium Density)
footprint LT-S6-6-TSOT-23_L (SOT23, 6-Leads, Body 2.9x1.75mm, Pitch 0.95mm, IPC High Density)
footprint LT-S6-6-TSOT-23_M (SOT23, 6-Leads, Body 2.9x1.75mm, Pitch 0.95mm, IPC Low Density)
pins: 1 SW "Switch. Connect to external inductor  L1 and positive terminal of transfer capacitor.", 2 GND (power) "Ground. For DFN package, tie both  pin 2 and pin 3 together to ground.", 3 FB (in) "Feedback. Place resistor to negative  output here. Set resistor value R1 = VOUT/10uA.", 4 ~{SHDN} (in) "Shutdown. Connect to GND to turn  device off. Connect to supply to turn device on.", 5 D "Anode Terminal of Integrated Schottky Diode. Connect to negative terminal of transfer capacitor and external inductor L2 (flyback configuration) or to cathode of external Schottky diode (inverting charge  pump configuration).", 6 VIN (power) "Input Supply. Must be locally bypassed  with 1uF or greater."

## LT3484EDCB-0
designator U?
Photoflash Capacitor Charger, 6-pin SON (DCB-6), -40 to 85 degC; Manufacturer: Linear Technology; PartNumber: LT3484EDCB-0; Number of Outputs: 1; PackageVersion: Rev. A, 03/2011; PackageReference: DCB-6; PackageDescription: 6-Pin Plastic DFN, Body 2 x 3 mm, Pitch 0.5 mm; RoHS: FALSE; Mounting Technology: Surface Mount; Code_JEDEC: MO-229; ComponentLink1Description: Manufacturer URL; ComponentLink1URL: http://www.linear.com/; ComponentLink2Description: Datasheet; ComponentLink2URL: http://cds.linear.com/docs/en/datasheet/3484012f.pdf; ComponentLink3Description: Package Specification; ComponentLink3URL: http://www.linear.com/docs/en/packaging/(DCB6)%20DFN%2005-08-1715%20Rev%20A.pdf
footprint LT-DCB-6_V (SON, 6-Leads, Body 3x2mm, Pitch 0.5mm, Thermal Pad 1.65x1.35mm)
pins: 1 ~{DONE} (oc) "Open NPN Collector Indication Pin. When target output voltage is reached, NPN turns on, pulling Pin 1 low. This pin needs a pull-up resistor or current source.", 2 CHARGE (in) "Charge Pin. A low (<0.3V) to high (>1V) transition on this pin puts the part into power delivery mode. Once the target voltage is reached, the part will stop charging the output. Toggle this pin to start charging again. (See Datasheet)", 3 VIN (power) "Input Supply Pin. Must be locally bypassed with a good quality ceramic capacitor. Input supply must be 2.5V or higher.", 4 SW (power) "Switch Pins. These are the collector of the internal NPN Power switch. Tie these pins together on the PC Board. Minimize the metal trace area connected to these pins to minimize EMI. Tie one side of the primary of the (See Datasheet)", 5 SW (power) "Switch Pins. These are the collector of the internal NPN Power switch. Tie these pins together on the PC Board. Minimize the metal trace area connected to these pins to minimize EMI. Tie one side of the primary of the (See Datasheet)", 6 VBAT (power) "Battery Supply Pin. Must be locally bypassed with a good quality ceramic capacitor. Battery supply must be 1.7V or higher. The other terminal of the transformer primary must be connected to VBAT.", 7 EP (power) "Ground. Tie directly to local ground plane."

## LT3484EDCB-0#PBF
designator U?
Photoflash Capacitor Charger, 6-pin SON (DCB-6), -40 to 85 degC, Pb-Free; Manufacturer: Linear Technology; PartNumber: LT3484EDCB-0#PBF; Number of Outputs: 1; PackageVersion: Rev. A, 03/2011; PackageReference: DCB-6; PackageDescription: 6-Pin Plastic DFN, Body 2 x 3 mm, Pitch 0.5 mm; RoHS: TRUE; Mounting Technology: Surface Mount; Code_JEDEC: MO-229; ComponentLink1Description: Manufacturer URL; ComponentLink1URL: http://www.linear.com/; ComponentLink2Description: Datasheet; ComponentLink2URL: http://cds.linear.com/docs/en/datasheet/3484012f.pdf; ComponentLink3Description: Package Specification; ComponentLink3URL: http://www.linear.com/docs/en/packaging/(DCB6)%20DFN%2005-08-1715%20Rev%20A.pdf
footprint LT-DCB-6_V (SON, 6-Leads, Body 3x2mm, Pitch 0.5mm, Thermal Pad 1.65x1.35mm)
pins: 1 ~{DONE} (oc) "Open NPN Collector Indication Pin. When target output voltage is reached, NPN turns on, pulling Pin 1 low. This pin needs a pull-up resistor or current source.", 2 CHARGE (in) "Charge Pin. A low (<0.3V) to high (>1V) transition on this pin puts the part into power delivery mode. Once the target voltage is reached, the part will stop charging the output. Toggle this pin to start charging again. (See Datasheet)", 3 VIN (power) "Input Supply Pin. Must be locally bypassed with a good quality ceramic capacitor. Input supply must be 2.5V or higher.", 4 SW (power) "Switch Pins. These are the collector of the internal NPN Power switch. Tie these pins together on the PC Board. Minimize the metal trace area connected to these pins to minimize EMI. Tie one side of the primary of the (See Datasheet)", 5 SW (power) "Switch Pins. These are the collector of the internal NPN Power switch. Tie these pins together on the PC Board. Minimize the metal trace area connected to these pins to minimize EMI. Tie one side of the primary of the (See Datasheet)", 6 VBAT (power) "Battery Supply Pin. Must be locally bypassed with a good quality ceramic capacitor. Battery supply must be 1.7V or higher. The other terminal of the transformer primary must be connected to VBAT.", 7 EP (power) "Ground. Tie directly to local ground plane."

## LT3484EDCB-0#TR
designator U?
Photoflash Capacitor Charger, 6-pin SON (DCB-6), -40 to 85 degC, Tape and Reel; Manufacturer: Linear Technology; PartNumber: LT3484EDCB-0#TR; Number of Outputs: 1; PackageVersion: Rev. A, 03/2011; PackageReference: DCB-6; PackageDescription: 6-Pin Plastic DFN, Body 2 x 3 mm, Pitch 0.5 mm; Supplier 1: Digi-Key; Supplier Part Number 1: LT3484EDCB-0#TR-ND; Packing: Tape and Reel; RoHS: FALSE; Mounting Technology: Surface Mount; Code_JEDEC: MO-229; ComponentLink1Description: Manufacturer URL; ComponentLink1URL: http://www.linear.com/; ComponentLink2Description: Datasheet; ComponentLink2URL: http://cds.linear.com/docs/en/datasheet/3484012f.pdf; ComponentLink3Description: Package Specification; ComponentLink3URL: http://www.linear.com/docs/en/packaging/(DCB6)%20DFN%2005-08-1715%20Rev%20A.pdf
footprint LT-DCB-6_V (SON, 6-Leads, Body 3x2mm, Pitch 0.5mm, Thermal Pad 1.65x1.35mm)
pins: 1 ~{DONE} (oc) "Open NPN Collector Indication Pin. When target output voltage is reached, NPN turns on, pulling Pin 1 low. This pin needs a pull-up resistor or current source.", 2 CHARGE (in) "Charge Pin. A low (<0.3V) to high (>1V) transition on this pin puts the part into power delivery mode. Once the target voltage is reached, the part will stop charging the output. Toggle this pin to start charging again. (See Datasheet)", 3 VIN (power) "Input Supply Pin. Must be locally bypassed with a good quality ceramic capacitor. Input supply must be 2.5V or higher.", 4 SW (power) "Switch Pins. These are the collector of the internal NPN Power switch. Tie these pins together on the PC Board. Minimize the metal trace area connected to these pins to minimize EMI. Tie one side of the primary of the (See Datasheet)", 5 SW (power) "Switch Pins. These are the collector of the internal NPN Power switch. Tie these pins together on the PC Board. Minimize the metal trace area connected to these pins to minimize EMI. Tie one side of the primary of the (See Datasheet)", 6 VBAT (power) "Battery Supply Pin. Must be locally bypassed with a good quality ceramic capacitor. Battery supply must be 1.7V or higher. The other terminal of the transformer primary must be connected to VBAT.", 7 EP (power) "Ground. Tie directly to local ground plane."

## LT3484EDCB-0#TRM
designator U?
Photoflash Capacitor Charger, 6-pin SON (DCB-6), -40 to 85 degC, Mini Tape and Reel; Manufacturer: Linear Technology; PartNumber: LT3484EDCB-0#TRM; Number of Outputs: 1; PackageVersion: Rev. A, 03/2011; PackageReference: DCB-6; PackageDescription: 6-Pin Plastic DFN, Body 2 x 3 mm, Pitch 0.5 mm; Supplier 1: Digi-Key; Supplier Part Number 1: LT3484EDCB-0#TRM-ND; Packing: Mini Tape and Reel; RoHS: FALSE; Mounting Technology: Surface Mount; Code_JEDEC: MO-229; ComponentLink1Description: Manufacturer URL; ComponentLink1URL: http://www.linear.com/; ComponentLink2Description: Datasheet; ComponentLink2URL: http://cds.linear.com/docs/en/datasheet/3484012f.pdf; ComponentLink3Description: Package Specification; ComponentLink3URL: http://www.linear.com/docs/en/packaging/(DCB6)%20DFN%2005-08-1715%20Rev%20A.pdf
footprint LT-DCB-6_V (SON, 6-Leads, Body 3x2mm, Pitch 0.5mm, Thermal Pad 1.65x1.35mm)
pins: 1 ~{DONE} (oc) "Open NPN Collector Indication Pin. When target output voltage is reached, NPN turns on, pulling Pin 1 low. This pin needs a pull-up resistor or current source.", 2 CHARGE (in) "Charge Pin. A low (<0.3V) to high (>1V) transition on this pin puts the part into power delivery mode. Once the target voltage is reached, the part will stop charging the output. Toggle this pin to start charging again. (See Datasheet)", 3 VIN (power) "Input Supply Pin. Must be locally bypassed with a good quality ceramic capacitor. Input supply must be 2.5V or higher.", 4 SW (power) "Switch Pins. These are the collector of the internal NPN Power switch. Tie these pins together on the PC Board. Minimize the metal trace area connected to these pins to minimize EMI. Tie one side of the primary of the (See Datasheet)", 5 SW (power) "Switch Pins. These are the collector of the internal NPN Power switch. Tie these pins together on the PC Board. Minimize the metal trace area connected to these pins to minimize EMI. Tie one side of the primary of the (See Datasheet)", 6 VBAT (power) "Battery Supply Pin. Must be locally bypassed with a good quality ceramic capacitor. Battery supply must be 1.7V or higher. The other terminal of the transformer primary must be connected to VBAT.", 7 EP (power) "Ground. Tie directly to local ground plane."

## LT3484EDCB-0#TRMPBF
designator U?
Photoflash Capacitor Charger, 6-pin SON (DCB-6), -40 to 85 degC, Pb-Free, Mini Tape and Reel; Manufacturer: Linear Technology; PartNumber: LT3484EDCB-0#TRMPBF; Number of Outputs: 1; PackageVersion: Rev. A, 03/2011; PackageReference: DCB-6; PackageDescription: 6-Pin Plastic DFN, Body 2 x 3 mm, Pitch 0.5 mm; Supplier 1: Digi-Key; Supplier Part Number 1: LT3484EDCB-0#TRMPBFTR-ND; Supplier 2: Digi-Key; Supplier Part Number 2: LT3484EDCB-0#TRMPBFCT-ND; Supplier 3: Digi-Key; Supplier Part Number 3: LT3484EDCB-0#TRMPBFDKR-ND; Packing: Mini Tape and Reel; RoHS: TRUE; Mounting Technology: Surface Mount; Code_JEDEC: MO-229; ComponentLink1Description: Manufacturer URL; ComponentLink1URL: http://www.linear.com/; ComponentLink2Description: Datasheet; ComponentLink2URL: http://cds.linear.com/docs/en/datasheet/3484012f.pdf; ComponentLink3Description: Package Specification; ComponentLink3URL: http://www.linear.com/docs/en/packaging/(DCB6)%20DFN%2005-08-1715%20Rev%20A.pdf
footprint LT-DCB-6_V (SON, 6-Leads, Body 3x2mm, Pitch 0.5mm, Thermal Pad 1.65x1.35mm)
pins: 1 ~{DONE} (oc) "Open NPN Collector Indication Pin. When target output voltage is reached, NPN turns on, pulling Pin 1 low. This pin needs a pull-up resistor or current source.", 2 CHARGE (in) "Charge Pin. A low (<0.3V) to high (>1V) transition on this pin puts the part into power delivery mode. Once the target voltage is reached, the part will stop charging the output. Toggle this pin to start charging again. (See Datasheet)", 3 VIN (power) "Input Supply Pin. Must be locally bypassed with a good quality ceramic capacitor. Input supply must be 2.5V or higher.", 4 SW (power) "Switch Pins. These are the collector of the internal NPN Power switch. Tie these pins together on the PC Board. Minimize the metal trace area connected to these pins to minimize EMI. Tie one side of the primary of the (See Datasheet)", 5 SW (power) "Switch Pins. These are the collector of the internal NPN Power switch. Tie these pins together on the PC Board. Minimize the metal trace area connected to these pins to minimize EMI. Tie one side of the primary of the (See Datasheet)", 6 VBAT (power) "Battery Supply Pin. Must be locally bypassed with a good quality ceramic capacitor. Battery supply must be 1.7V or higher. The other terminal of the transformer primary must be connected to VBAT.", 7 EP (power) "Ground. Tie directly to local ground plane."

## LT3484EDCB-0#TRPBF
designator U?
Photoflash Capacitor Charger, 6-pin SON (DCB-6), -40 to 85 degC, Pb-Free, Tape and Reel; Manufacturer: Linear Technology; PartNumber: LT3484EDCB-0#TRPBF; Number of Outputs: 1; PackageVersion: Rev. A, 03/2011; PackageReference: DCB-6; PackageDescription: 6-Pin Plastic DFN, Body 2 x 3 mm, Pitch 0.5 mm; Supplier 1: Digi-Key; Supplier Part Number 1: LT3484EDCB-0#TRPBF-ND; Packing: Tape and Reel; RoHS: TRUE; Mounting Technology: Surface Mount; Code_JEDEC: MO-229; ComponentLink1Description: Manufacturer URL; ComponentLink1URL: http://www.linear.com/; ComponentLink2Description: Datasheet; ComponentLink2URL: http://cds.linear.com/docs/en/datasheet/3484012f.pdf; ComponentLink3Description: Package Specification; ComponentLink3URL: http://www.linear.com/docs/en/packaging/(DCB6)%20DFN%2005-08-1715%20Rev%20A.pdf
footprint LT-DCB-6_V (SON, 6-Leads, Body 3x2mm, Pitch 0.5mm, Thermal Pad 1.65x1.35mm)
pins: 1 ~{DONE} (oc) "Open NPN Collector Indication Pin. When target output voltage is reached, NPN turns on, pulling Pin 1 low. This pin needs a pull-up resistor or current source.", 2 CHARGE (in) "Charge Pin. A low (<0.3V) to high (>1V) transition on this pin puts the part into power delivery mode. Once the target voltage is reached, the part will stop charging the output. Toggle this pin to start charging again. (See Datasheet)", 3 VIN (power) "Input Supply Pin. Must be locally bypassed with a good quality ceramic capacitor. Input supply must be 2.5V or higher.", 4 SW (power) "Switch Pins. These are the collector of the internal NPN Power switch. Tie these pins together on the PC Board. Minimize the metal trace area connected to these pins to minimize EMI. Tie one side of the primary of the (See Datasheet)", 5 SW (power) "Switch Pins. These are the collector of the internal NPN Power switch. Tie these pins together on the PC Board. Minimize the metal trace area connected to these pins to minimize EMI. Tie one side of the primary of the (See Datasheet)", 6 VBAT (power) "Battery Supply Pin. Must be locally bypassed with a good quality ceramic capacitor. Battery supply must be 1.7V or higher. The other terminal of the transformer primary must be connected to VBAT.", 7 EP (power) "Ground. Tie directly to local ground plane."